# Altium footprint library Connector_Phoenix_MC.PcbLib: 180 footprints (part 1 of 12)
Each footprint in its own frame and in the unit in brackets; x right, y up, seen from the top. Pads: shape width x height; smd on the part's side, far side on the other; paste and mask are expansions set on the pad; w line width, h text height; cw(c..) or ccw(c..) is an arc to the next point about the centre after c.
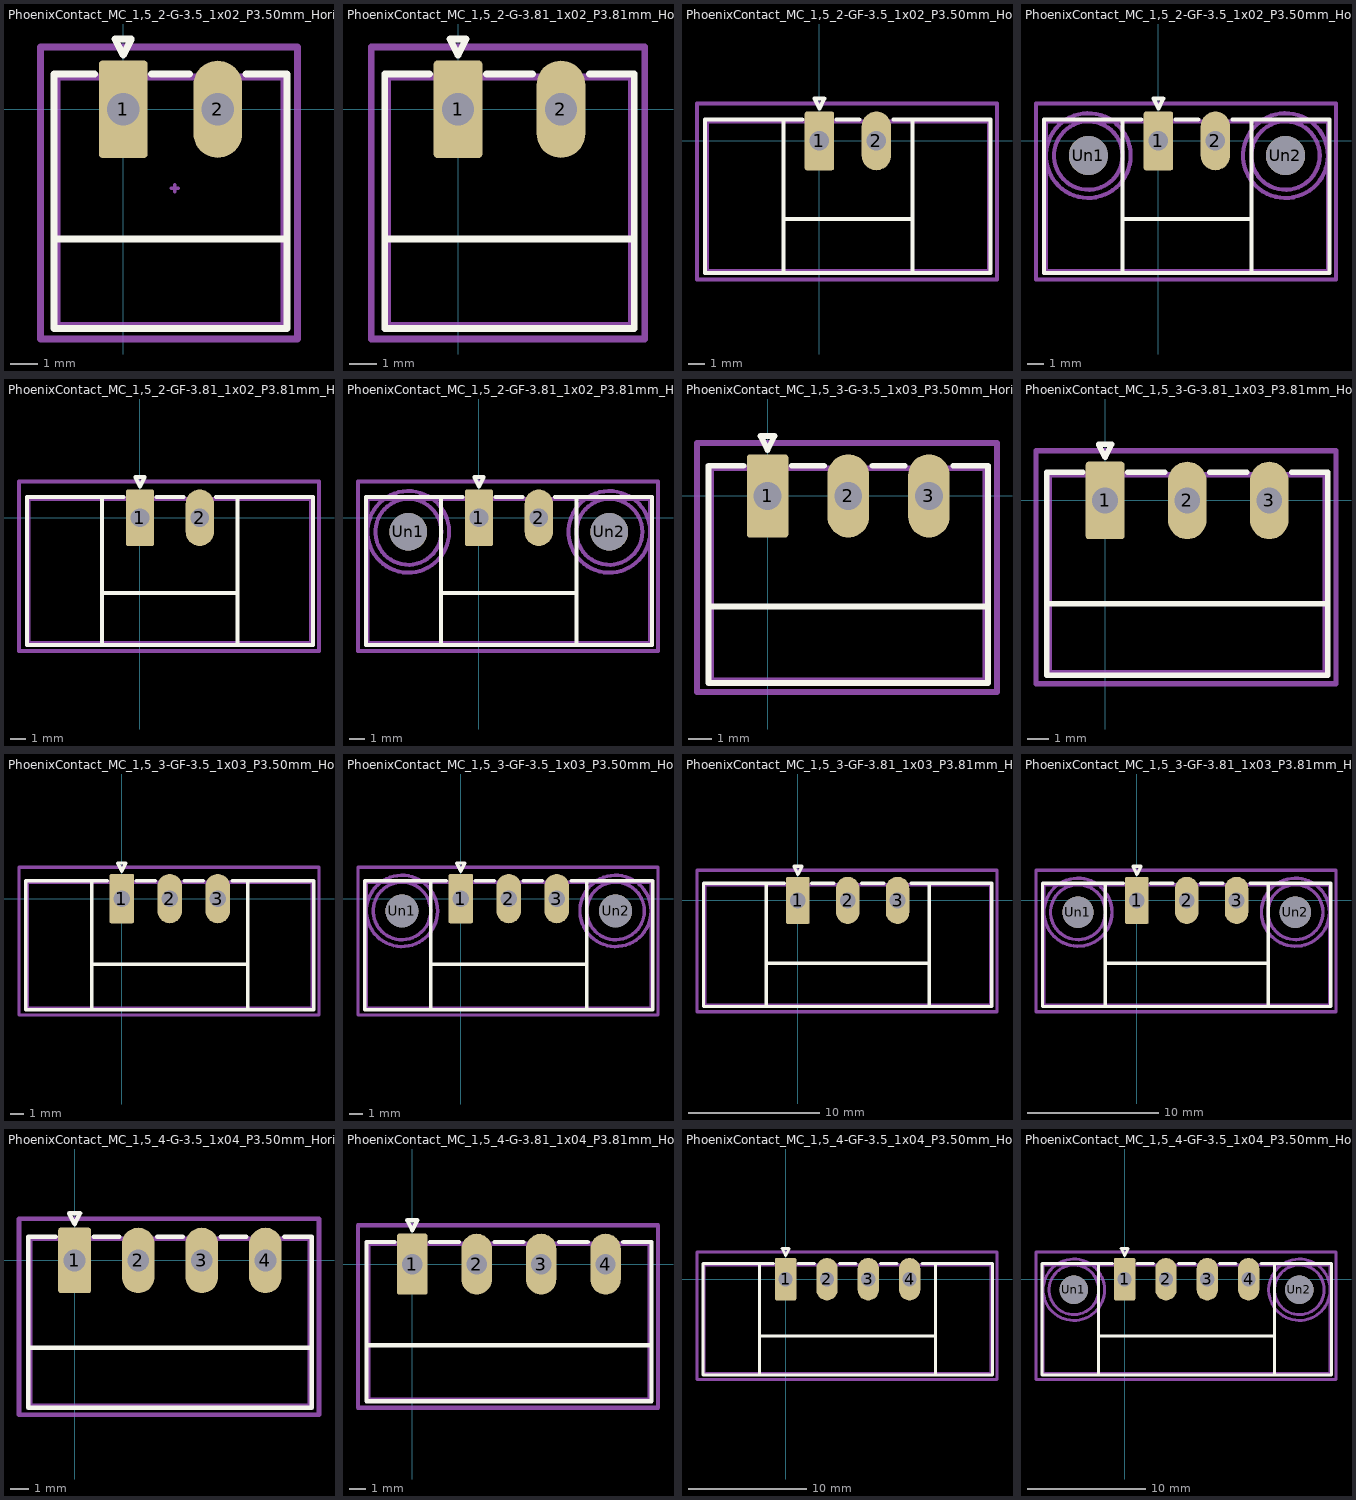
[diagram p0: the footprints below, top view; thin cyan lines are the x and y axes]

## PhoenixContact_MC_1,5_2-G-3.5_1x02_P3.50mm_Horizontal [mm]
pads (2):
  rrect14% 1.8x3.6 hole 1.2: 1(0,0)
  rrect100% 1.8x3.6 hole 1.2: 2(3.5,0)
F.SilkS:
  lines w0.254: -2.56,-4.8 6.06,-4.8 ; -1.05,1.31 -2.56,1.31 -2.56,-8.11 6.06,-8.11 6.06,1.31 4.55,1.31 ; 1.05,1.31 2.45,1.31 ; -0.3,2.6 0,2 0.3,2.6 -0.3,2.6
Top Component Center:
  lines w0.127: 1.778,-2.921 2.032,-2.921 ; 1.905,-3.048 1.905,-2.794
Top Assembly:
  lines w0.254: -0.8,1.2 0,0 0.8,1.2 ; -2.45,-8 5.95,-8 5.95,1.2 -2.45,1.2 -2.45,-8
  text "'.Designator'" at -2.297,-0.34 h1
Top Courtyard:
  lines w0.254: -3.06,-8.5 6.45,-8.5 6.45,2.3 -3.06,2.3 -3.06,-8.5
Top Designator:
  text ".Designator" at -5.923,-3.458 h1.52

## PhoenixContact_MC_1,5_2-G-3.81_1x02_P3.81mm_Horizontal [mm]
pads (2):
  rrect14% 1.8x3.6 hole 1.2: 1(0,0)
  rrect100% 1.8x3.6 hole 1.2: 2(3.81,0)
F.SilkS:
  lines w0.254: -2.71,-4.8 6.52,-4.8 ; -1.05,1.31 -2.71,1.31 -2.71,-8.11 6.52,-8.11 6.52,1.31 4.86,1.31 ; 1.05,1.31 2.76,1.31 ; -0.3,2.6 0,2 0.3,2.6 -0.3,2.6
Top Assembly:
  lines w0.254: -0.8,1.2 0,0 0.8,1.2 ; -2.6,-8 6.41,-8 6.41,1.2 -2.6,1.2 -2.6,-8
  text "'.Designator'" at -2.147,-0.34 h1
Top Courtyard:
  lines w0.254: -3.21,-8.5 6.91,-8.5 6.91,2.3 -3.21,2.3 -3.21,-8.5
Top Designator:
  text ".Designator" at -5.768,-3.458 h1.52

## PhoenixContact_MC_1,5_2-GF-3.5_1x02_P3.50mm_Horizontal_ThreadedFlange [mm]
pads (2):
  rrect14% 1.8x3.6 hole 1.2: 1(0,0)
  rrect100% 1.8x3.6 hole 1.2: 2(3.5,0)
F.SilkS:
  lines w0.254: -2.21,-8.11 -2.21,1.31 ; -2.21,-4.8 5.71,-4.8 ; -1.05,1.31 -7.01,1.31 -7.01,-8.11 10.51,-8.11 10.51,1.31 4.55,1.31 ; 1.05,1.31 2.45,1.31 ; 5.71,-8.11 5.71,1.31 ; -0.3,2.6 0,2 0.3,2.6 -0.3,2.6
Top Assembly:
  lines w0.254: -0.8,1.2 0,0 0.8,1.2 ; -6.9,-8 10.4,-8 10.4,1.2 -6.9,1.2 -6.9,-8
  text "'.Designator'" at -2.297,-0.34 h1
Top Courtyard:
  lines w0.254: -7.51,-8.5 10.9,-8.5 10.9,2.3 -7.51,2.3 -7.51,-8.5
Top Designator:
  text ".Designator" at -5.923,-3.458 h1.52

## PhoenixContact_MC_1,5_2-GF-3.5_1x02_P3.50mm_Horizontal_ThreadedFlange_MountHole [mm]
pads (4):
  rrect14% 1.8x3.6 hole 1.2: 1(0,0)
  rrect100% 1.8x3.6 hole 1.2: 2(3.5,0)
  round 2.4 hole 2.4: Un1(-4.3,-0.9) Un2(7.8,-0.9)
F.SilkS:
  lines w0.254: -2.21,-8.11 -2.21,1.31 ; -2.21,-4.8 5.71,-4.8 ; -1.05,1.31 -7.01,1.31 -7.01,-8.11 10.51,-8.11 10.51,1.31 4.55,1.31 ; 1.05,1.31 2.45,1.31 ; 5.71,-8.11 5.71,1.31 ; -0.3,2.6 0,2 0.3,2.6 -0.3,2.6
B.SilkS:
  circle w0.254: c7.8,-0.9 r2.21
  circle w0.254: c-4.3,-0.9 r2.21
Top Assembly:
  lines w0.254: -0.8,1.2 0,0 0.8,1.2 ; -6.9,-8 10.4,-8 10.4,1.2 -6.9,1.2 -6.9,-8
  text "'.Designator'" at -2.297,-0.34 h1
Bottom Assembly:
  circle w0.254: c7.8,-0.9 r2.1
  circle w0.254: c-4.3,-0.9 r2.1
Top Courtyard:
  lines w0.254: -7.51,-8.5 10.9,-8.5 10.9,2.3 -7.51,2.3 -7.51,-8.5
Bottom Courtyard:
  circle w0.254: c7.8,-0.9 r2.6
  circle w0.254: c-4.3,-0.9 r2.6
Top Designator:
  text ".Designator" at -5.923,-3.458 h1.52

## PhoenixContact_MC_1,5_2-GF-3.81_1x02_P3.81mm_Horizontal_ThreadedFlange [mm]
pads (2):
  rrect14% 1.8x3.6 hole 1.2: 1(0,0)
  rrect100% 1.8x3.6 hole 1.2: 2(3.81,0)
F.SilkS:
  lines w0.254: -2.41,-8.11 -2.41,1.31 ; -2.41,-4.8 6.22,-4.8 ; -1.05,1.31 -7.21,1.31 -7.21,-8.11 11.02,-8.11 11.02,1.31 4.86,1.31 ; 1.05,1.31 2.76,1.31 ; 6.22,-8.11 6.22,1.31 ; -0.3,2.6 0,2 0.3,2.6 -0.3,2.6
Top Assembly:
  lines w0.254: -0.8,1.2 0,0 0.8,1.2 ; -7.1,-8 10.91,-8 10.91,1.2 -7.1,1.2 -7.1,-8
  text "'.Designator'" at -2.147,-0.34 h1
Top Courtyard:
  lines w0.254: -7.71,-8.5 11.41,-8.5 11.41,2.3 -7.71,2.3 -7.71,-8.5
Top Designator:
  text ".Designator" at -5.768,-3.458 h1.52

## PhoenixContact_MC_1,5_2-GF-3.81_1x02_P3.81mm_Horizontal_ThreadedFlange_MountHole [mm]
pads (4):
  rrect14% 1.8x3.6 hole 1.2: 1(0,0)
  rrect100% 1.8x3.6 hole 1.2: 2(3.81,0)
  round 2.4 hole 2.4: Un1(-4.5,-0.9) Un2(8.31,-0.9)
F.SilkS:
  lines w0.254: -2.41,-8.11 -2.41,1.31 ; -2.41,-4.8 6.22,-4.8 ; -1.05,1.31 -7.21,1.31 -7.21,-8.11 11.02,-8.11 11.02,1.31 4.86,1.31 ; 1.05,1.31 2.76,1.31 ; 6.22,-8.11 6.22,1.31 ; -0.3,2.6 0,2 0.3,2.6 -0.3,2.6
B.SilkS:
  circle w0.254: c8.31,-0.9 r2.21
  circle w0.254: c-4.5,-0.9 r2.21
Top Assembly:
  lines w0.254: -0.8,1.2 0,0 0.8,1.2 ; -7.1,-8 10.91,-8 10.91,1.2 -7.1,1.2 -7.1,-8
  text "'.Designator'" at -2.147,-0.34 h1
Bottom Assembly:
  circle w0.254: c8.31,-0.9 r2.1
  circle w0.254: c-4.5,-0.9 r2.1
Top Courtyard:
  lines w0.254: -7.71,-8.5 11.41,-8.5 11.41,2.3 -7.71,2.3 -7.71,-8.5
Bottom Courtyard:
  circle w0.254: c8.31,-0.9 r2.6
  circle w0.254: c-4.5,-0.9 r2.6
Top Designator:
  text ".Designator" at -5.768,-3.458 h1.52

## PhoenixContact_MC_1,5_3-G-3.5_1x03_P3.50mm_Horizontal [mm]
pads (3):
  rrect14% 1.8x3.6 hole 1.2: 1(0,0)
  rrect100% 1.8x3.6 hole 1.2: 2(3.5,0) 3(7,0)
F.SilkS:
  lines w0.254: -2.56,-4.8 9.56,-4.8 ; -1.05,1.31 -2.56,1.31 -2.56,-8.11 9.56,-8.11 9.56,1.31 8.05,1.31 ; 1.05,1.31 2.45,1.31 ; 4.55,1.31 5.95,1.31 ; -0.3,2.6 0,2 0.3,2.6 -0.3,2.6
Top Assembly:
  lines w0.254: -0.8,1.2 0,0 0.8,1.2 ; -2.45,-8 9.45,-8 9.45,1.2 -2.45,1.2 -2.45,-8
  text "'.Designator'" at -0.547,-0.34 h1
Top Courtyard:
  lines w0.254: -3.06,-8.5 9.95,-8.5 9.95,2.3 -3.06,2.3 -3.06,-8.5
Top Designator:
  text ".Designator" at -4.173,-3.458 h1.52

## PhoenixContact_MC_1,5_3-G-3.81_1x03_P3.81mm_Horizontal [mm]
pads (3):
  rrect14% 1.8x3.6 hole 1.2: 1(0,0)
  rrect100% 1.8x3.6 hole 1.2: 2(3.81,0) 3(7.62,0)
F.SilkS:
  lines w0.254: -2.71,-4.8 10.33,-4.8 ; -1.05,1.31 -2.71,1.31 -2.71,-8.11 10.33,-8.11 10.33,1.31 8.67,1.31 ; 1.05,1.31 2.76,1.31 ; 4.86,1.31 6.57,1.31 ; -0.3,2.6 0,2 0.3,2.6 -0.3,2.6
Top Assembly:
  lines w0.254: -0.8,1.2 0,0 0.8,1.2 ; -2.6,-8 10.22,-8 10.22,1.2 -2.6,1.2 -2.6,-8
  text "'.Designator'" at -0.237,-0.34 h1
Top Courtyard:
  lines w0.254: -3.21,-8.5 10.72,-8.5 10.72,2.3 -3.21,2.3 -3.21,-8.5
Top Designator:
  text ".Designator" at -3.863,-3.458 h1.52

## PhoenixContact_MC_1,5_3-GF-3.5_1x03_P3.50mm_Horizontal_ThreadedFlange [mm]
pads (3):
  rrect14% 1.8x3.6 hole 1.2: 1(0,0)
  rrect100% 1.8x3.6 hole 1.2: 2(3.5,0) 3(7,0)
F.SilkS:
  lines w0.254: -2.21,-8.11 -2.21,1.31 ; -2.21,-4.8 9.21,-4.8 ; -1.05,1.31 -7.01,1.31 -7.01,-8.11 14.01,-8.11 14.01,1.31 8.05,1.31 ; 1.05,1.31 2.45,1.31 ; 4.55,1.31 5.95,1.31 ; 9.21,-8.11 9.21,1.31 ; -0.3,2.6 0,2 0.3,2.6 -0.3,2.6
Top Assembly:
  lines w0.254: -0.8,1.2 0,0 0.8,1.2 ; -6.9,-8 13.9,-8 13.9,1.2 -6.9,1.2 -6.9,-8
  text "'.Designator'" at -0.547,-0.34 h1
Top Courtyard:
  lines w0.254: -7.51,-8.5 14.4,-8.5 14.4,2.3 -7.51,2.3 -7.51,-8.5
Top Designator:
  text ".Designator" at -4.173,-3.458 h1.52

## PhoenixContact_MC_1,5_3-GF-3.5_1x03_P3.50mm_Horizontal_ThreadedFlange_MountHole [mm]
pads (5):
  rrect14% 1.8x3.6 hole 1.2: 1(0,0)
  rrect100% 1.8x3.6 hole 1.2: 2(3.5,0) 3(7,0)
  round 2.4 hole 2.4: Un1(-4.3,-0.9) Un2(11.3,-0.9)
F.SilkS:
  lines w0.254: -2.21,-8.11 -2.21,1.31 ; -2.21,-4.8 9.21,-4.8 ; -1.05,1.31 -7.01,1.31 -7.01,-8.11 14.01,-8.11 14.01,1.31 8.05,1.31 ; 1.05,1.31 2.45,1.31 ; 4.55,1.31 5.95,1.31 ; 9.21,-8.11 9.21,1.31 ; -0.3,2.6 0,2 0.3,2.6 -0.3,2.6
B.SilkS:
  circle w0.254: c11.3,-0.9 r2.21
  circle w0.254: c-4.3,-0.9 r2.21
Top Assembly:
  lines w0.254: -0.8,1.2 0,0 0.8,1.2 ; -6.9,-8 13.9,-8 13.9,1.2 -6.9,1.2 -6.9,-8
  text "'.Designator'" at -0.547,-0.34 h1
Bottom Assembly:
  circle w0.254: c11.3,-0.9 r2.1
  circle w0.254: c-4.3,-0.9 r2.1
Top Courtyard:
  lines w0.254: -7.51,-8.5 14.4,-8.5 14.4,2.3 -7.51,2.3 -7.51,-8.5
Bottom Courtyard:
  circle w0.254: c11.3,-0.9 r2.6
  circle w0.254: c-4.3,-0.9 r2.6
Top Designator:
  text ".Designator" at -4.173,-3.458 h1.52

## PhoenixContact_MC_1,5_3-GF-3.81_1x03_P3.81mm_Horizontal_ThreadedFlange [mm]
pads (3):
  rrect14% 1.8x3.6 hole 1.2: 1(0,0)
  rrect100% 1.8x3.6 hole 1.2: 2(3.81,0) 3(7.62,0)
F.SilkS:
  lines w0.254: -2.41,-8.11 -2.41,1.31 ; -2.41,-4.8 10.03,-4.8 ; -1.05,1.31 -7.21,1.31 -7.21,-8.11 14.83,-8.11 14.83,1.31 8.67,1.31 ; 1.05,1.31 2.76,1.31 ; 4.86,1.31 6.57,1.31 ; 10.03,-8.11 10.03,1.31 ; -0.3,2.6 0,2 0.3,2.6 -0.3,2.6
Top Assembly:
  lines w0.254: -0.8,1.2 0,0 0.8,1.2 ; -7.1,-8 14.72,-8 14.72,1.2 -7.1,1.2 -7.1,-8
  text "'.Designator'" at -0.237,-0.34 h1
Top Courtyard:
  lines w0.254: -7.71,-8.5 15.22,-8.5 15.22,2.3 -7.71,2.3 -7.71,-8.5
Top Designator:
  text ".Designator" at -3.863,-3.458 h1.52

## PhoenixContact_MC_1,5_3-GF-3.81_1x03_P3.81mm_Horizontal_ThreadedFlange_MountHole [mm]
pads (5):
  rrect14% 1.8x3.6 hole 1.2: 1(0,0)
  rrect100% 1.8x3.6 hole 1.2: 2(3.81,0) 3(7.62,0)
  round 2.4 hole 2.4: Un1(-4.5,-0.9) Un2(12.12,-0.9)
F.SilkS:
  lines w0.254: -2.41,-8.11 -2.41,1.31 ; -2.41,-4.8 10.03,-4.8 ; -1.05,1.31 -7.21,1.31 -7.21,-8.11 14.83,-8.11 14.83,1.31 8.67,1.31 ; 1.05,1.31 2.76,1.31 ; 4.86,1.31 6.57,1.31 ; 10.03,-8.11 10.03,1.31 ; -0.3,2.6 0,2 0.3,2.6 -0.3,2.6
B.SilkS:
  circle w0.254: c12.12,-0.9 r2.21
  circle w0.254: c-4.5,-0.9 r2.21
Top Assembly:
  lines w0.254: -0.8,1.2 0,0 0.8,1.2 ; -7.1,-8 14.72,-8 14.72,1.2 -7.1,1.2 -7.1,-8
  text "'.Designator'" at -0.237,-0.34 h1
Bottom Assembly:
  circle w0.254: c12.12,-0.9 r2.1
  circle w0.254: c-4.5,-0.9 r2.1
Top Courtyard:
  lines w0.254: -7.71,-8.5 15.22,-8.5 15.22,2.3 -7.71,2.3 -7.71,-8.5
Bottom Courtyard:
  circle w0.254: c12.12,-0.9 r2.6
  circle w0.254: c-4.5,-0.9 r2.6
Top Designator:
  text ".Designator" at -3.863,-3.458 h1.52

## PhoenixContact_MC_1,5_4-G-3.5_1x04_P3.50mm_Horizontal [mm]
pads (4):
  rrect14% 1.8x3.6 hole 1.2: 1(0,0)
  rrect100% 1.8x3.6 hole 1.2: 2(3.5,0) 3(7,0) 4(10.5,0)
F.SilkS:
  lines w0.254: -2.56,-4.8 13.06,-4.8 ; -1.05,1.31 -2.56,1.31 -2.56,-8.11 13.06,-8.11 13.06,1.31 11.55,1.31 ; 1.05,1.31 2.45,1.31 ; 4.55,1.31 5.95,1.31 ; 8.05,1.31 9.45,1.31 ; -0.3,2.6 0,2 0.3,2.6 -0.3,2.6
Top Assembly:
  lines w0.254: -0.8,1.2 0,0 0.8,1.2 ; -2.45,-8 12.95,-8 12.95,1.2 -2.45,1.2 -2.45,-8
  text "'.Designator'" at 1.203,-0.34 h1
Top Courtyard:
  lines w0.254: -3.06,-8.5 13.45,-8.5 13.45,2.3 -3.06,2.3 -3.06,-8.5
Top Designator:
  text ".Designator" at -2.423,-3.458 h1.52

## PhoenixContact_MC_1,5_4-G-3.81_1x04_P3.81mm_Horizontal [mm]
pads (4):
  rrect14% 1.8x3.6 hole 1.2: 1(0,0)
  rrect100% 1.8x3.6 hole 1.2: 2(3.81,0) 3(7.62,0) 4(11.43,0)
F.SilkS:
  lines w0.254: -2.71,-4.8 14.14,-4.8 ; -1.05,1.31 -2.71,1.31 -2.71,-8.11 14.14,-8.11 14.14,1.31 12.48,1.31 ; 1.05,1.31 2.76,1.31 ; 4.86,1.31 6.57,1.31 ; 8.67,1.31 10.38,1.31 ; -0.3,2.6 0,2 0.3,2.6 -0.3,2.6
Top Assembly:
  lines w0.254: -0.8,1.2 0,0 0.8,1.2 ; -2.6,-8 14.03,-8 14.03,1.2 -2.6,1.2 -2.6,-8
  text "'.Designator'" at 1.673,-0.34 h1
Top Courtyard:
  lines w0.254: -3.21,-8.5 14.53,-8.5 14.53,2.3 -3.21,2.3 -3.21,-8.5
Top Designator:
  text ".Designator" at -1.958,-3.458 h1.52

## PhoenixContact_MC_1,5_4-GF-3.5_1x04_P3.50mm_Horizontal_ThreadedFlange [mm]
pads (4):
  rrect14% 1.8x3.6 hole 1.2: 1(0,0)
  rrect100% 1.8x3.6 hole 1.2: 2(3.5,0) 3(7,0) 4(10.5,0)
F.SilkS:
  lines w0.254: -2.21,-8.11 -2.21,1.31 ; -2.21,-4.8 12.71,-4.8 ; -1.05,1.31 -7.01,1.31 -7.01,-8.11 17.51,-8.11 17.51,1.31 11.55,1.31 ; 1.05,1.31 2.45,1.31 ; 4.55,1.31 5.95,1.31 ; 8.05,1.31 9.45,1.31 ; 12.71,-8.11 12.71,1.31 ; -0.3,2.6 0,2 0.3,2.6 -0.3,2.6
Top Assembly:
  lines w0.254: -0.8,1.2 0,0 0.8,1.2 ; -6.9,-8 17.4,-8 17.4,1.2 -6.9,1.2 -6.9,-8
  text "'.Designator'" at 1.203,-0.34 h1
Top Courtyard:
  lines w0.254: -7.51,-8.5 17.9,-8.5 17.9,2.3 -7.51,2.3 -7.51,-8.5
Top Designator:
  text ".Designator" at -2.423,-3.458 h1.52

## PhoenixContact_MC_1,5_4-GF-3.5_1x04_P3.50mm_Horizontal_ThreadedFlange_MountHole [mm]
pads (6):
  rrect14% 1.8x3.6 hole 1.2: 1(0,0)
  rrect100% 1.8x3.6 hole 1.2: 2(3.5,0) 3(7,0) 4(10.5,0)
  round 2.4 hole 2.4: Un1(-4.3,-0.9) Un2(14.8,-0.9)
F.SilkS:
  lines w0.254: -2.21,-8.11 -2.21,1.31 ; -2.21,-4.8 12.71,-4.8 ; -1.05,1.31 -7.01,1.31 -7.01,-8.11 17.51,-8.11 17.51,1.31 11.55,1.31 ; 1.05,1.31 2.45,1.31 ; 4.55,1.31 5.95,1.31 ; 8.05,1.31 9.45,1.31 ; 12.71,-8.11 12.71,1.31 ; -0.3,2.6 0,2 0.3,2.6 -0.3,2.6
B.SilkS:
  circle w0.254: c14.8,-0.9 r2.21
  circle w0.254: c-4.3,-0.9 r2.21
Top Assembly:
  lines w0.254: -0.8,1.2 0,0 0.8,1.2 ; -6.9,-8 17.4,-8 17.4,1.2 -6.9,1.2 -6.9,-8
  text "'.Designator'" at 1.203,-0.34 h1
Bottom Assembly:
  circle w0.254: c14.8,-0.9 r2.1
  circle w0.254: c-4.3,-0.9 r2.1
Top Courtyard:
  lines w0.254: -7.51,-8.5 17.9,-8.5 17.9,2.3 -7.51,2.3 -7.51,-8.5
Bottom Courtyard:
  circle w0.254: c14.8,-0.9 r2.6
  circle w0.254: c-4.3,-0.9 r2.6
Top Designator:
  text ".Designator" at -2.423,-3.458 h1.52